# Altium footprint library CAP_CER_0603_DIY.PcbLib: 1 footprints
Each footprint in its own frame and in the unit in brackets; x right, y up, seen from the top. Pads: shape width x height; smd on the part's side, far side on the other; paste and mask are expansions set on the pad; w line width, h text height; cw(c..) or ccw(c..) is an arc to the next point about the centre after c.
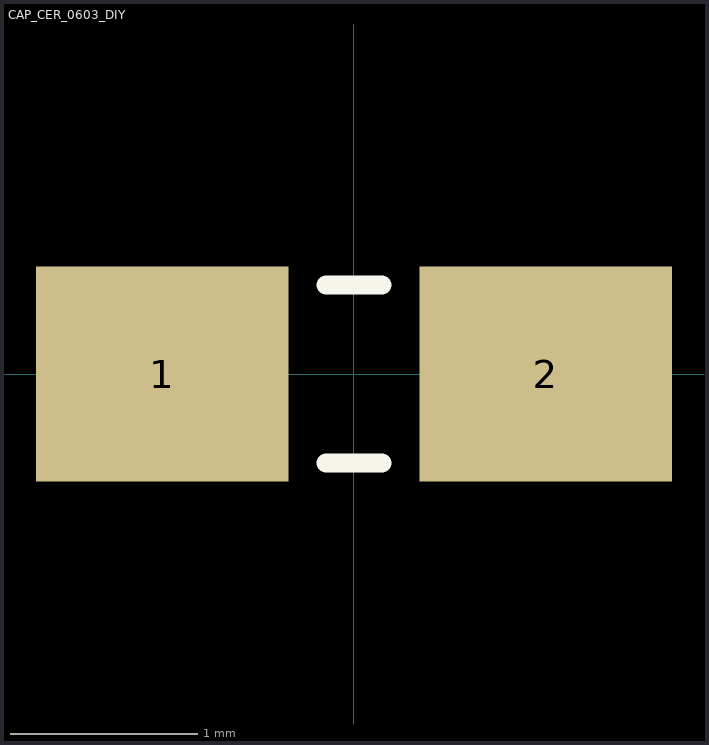
[diagram p0: the footprint, top view; thin cyan lines are the x and y axes]

## CAP_CER_0603_DIY [mm]
height 0.9
pads (2):
  rect 1.35x1.15 smd: 1(-1.025,0) 2(1.025,0)
Top Overlay:
  lines w0.1: -0.15,-0.475 0.15,-0.475 ; -0.15,0.475 0.15,0.475